# Altium footprint library Cesium_3.PcbLib: 30 footprints (part 1 of 2)
Each footprint in its own frame and in the unit in brackets; x right, y up, seen from the top. Pads: shape width x height; smd on the part's side, far side on the other; paste and mask are expansions set on the pad; w line width, h text height; cw(c..) or ccw(c..) is an arc to the next point about the centre after c.
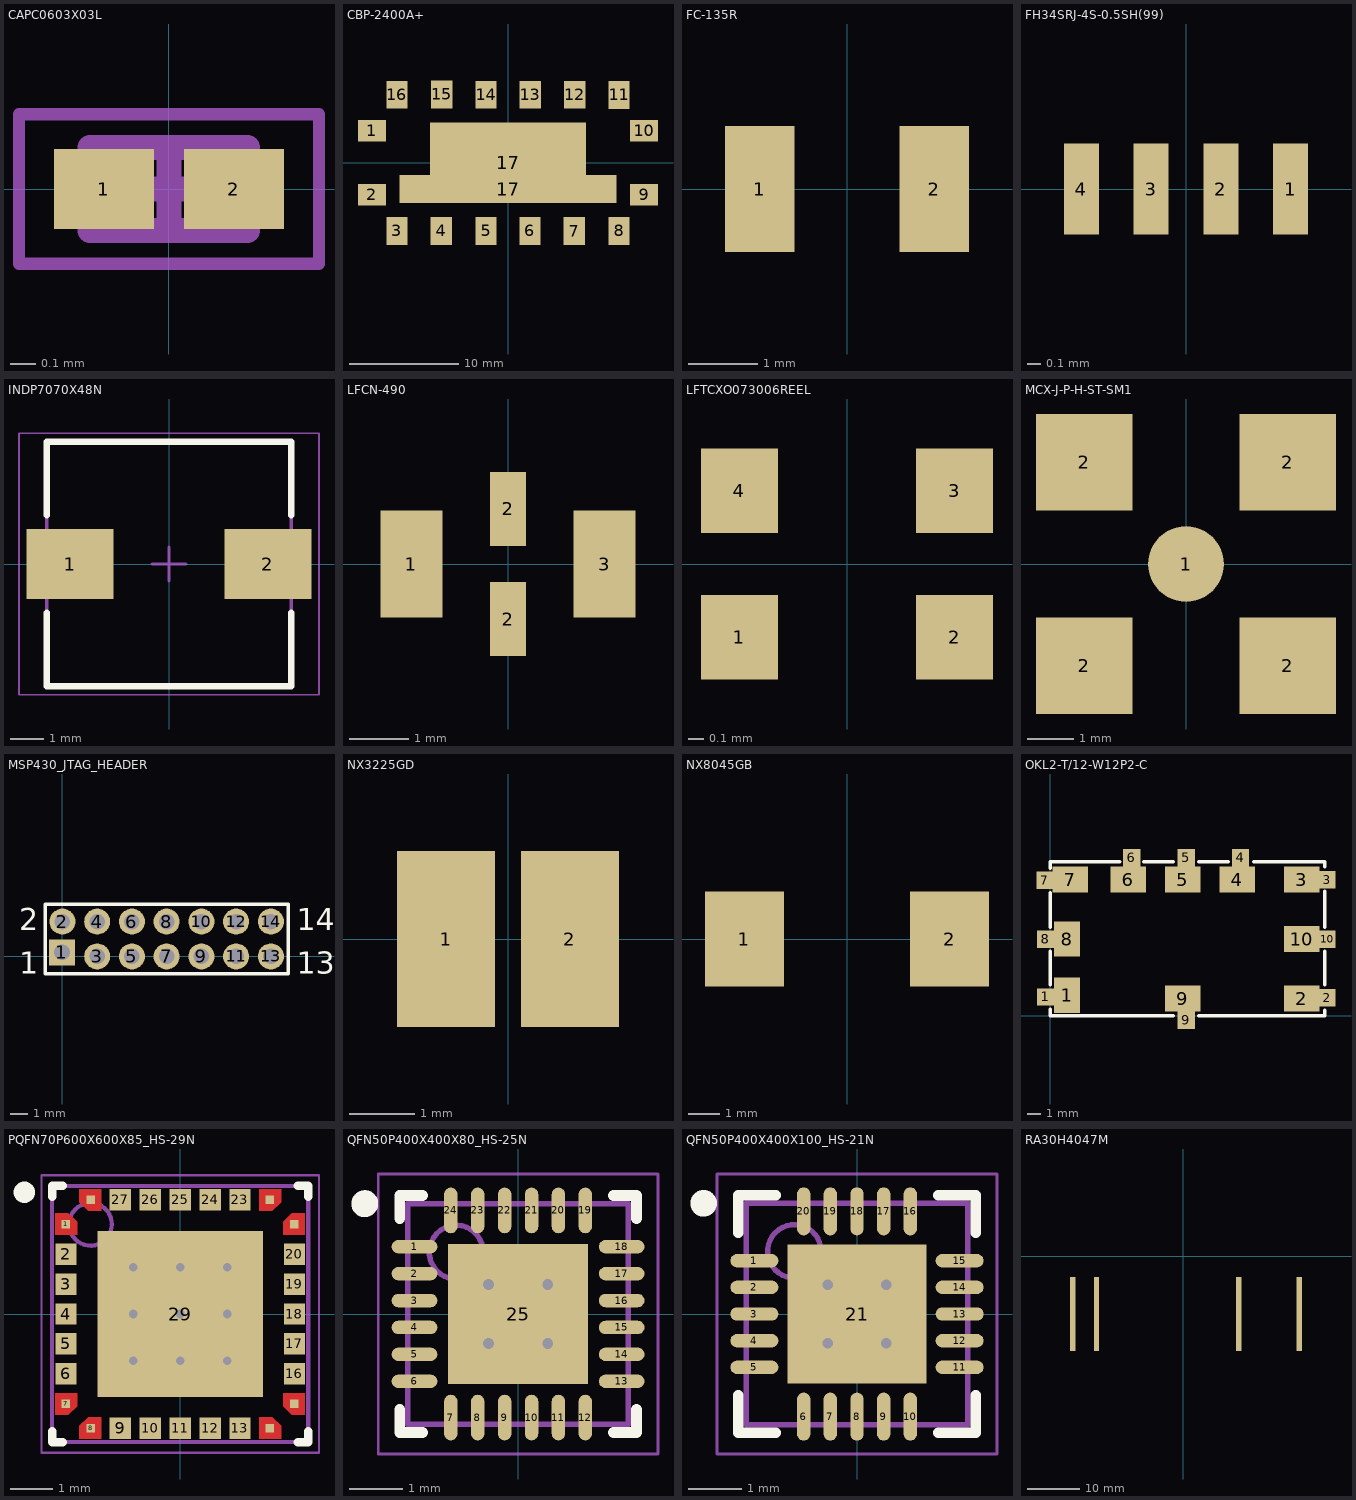
[diagram p0: the footprints below, top view; thin cyan lines are the x and y axes]

## CAPC0603X03L [mm] "Chip Capacitor, 2-Leads, Body 0.60x0.30mm, IPC High Density"
height 0.33
pads (2):
  rect 0.4x0.32 smd: 1(-0.26,0) 2(0.26,0)
Mechanical 13:
  lines w0.1: -0.315,-0.165 -0.315,0.165 0.315,0.165 0.315,-0.165 -0.315,-0.165
Mechanical 15:
  lines w0.05: -0.6,-0.3 -0.6,0.3 0.6,0.3 0.6,-0.3 -0.6,-0.3
  lines w0.1: -0.165,0 0.165,0 ; 0,-0.165 0,0.165
3D body: height 0.33, standoff 0, extent -0.165,-0.165 0.165,0.165
3D body: height 0.33, standoff 0, extent -0.315,-0.165 -0.165,0.165
3D body: height 0.33, standoff 0, extent 0.165,-0.165 0.315,0.165

## CBP-2400A+ [mm]
pads (18):
  rect 2.54x1.95 smd: 1(-12.445,2.92) 2(-12.445,-2.92) 9(12.445,-2.92) 10(12.445,2.92)
  rect 1.95x2.54 smd: 3(-10.155,-6.225) 4(-6.095,-6.225) 5(-2.01,-6.225) 6(2.01,-6.225) 7(6.07,-6.25) 8(10.155,-6.225) 11(10.155,6.2) 12(6.095,6.225) 13(2.035,6.225) 14(-2.01,6.225) 15(-6.07,6.25) 16(-10.155,6.225)
  rect 19.81x2.54 smd: 17(0,-2.41)
  rect 14.25x7.36 smd: 17(0,0)
3D body: height 1.27, standoff 0, extent -12.15,7.125 -12.15,7.125
3D body: height 4.7, standoff 0, extent -13,-6.975 13,6.975

## FC-135R [mm]
pads (2):
  rect 1x1.8 smd: 1(-1.25,0) 2(1.25,0)
3D body: height 0.9, standoff 0, extent -1.6,-0.75 1.6,0.75

## FH34SRJ-4S-0.5SH(99) [mm]
pads (4):
  rect 0.25x0.65 smd: 1(0.75,0) 2(0.25,0) 3(-0.25,0) 4(-0.75,0)
3D body "FH34SRJ-4S-0.5SH.stp": height 1, standoff 0, extent -2,-3 2,0.8

## INDP7070X48N [mm] "Precision Wire Wound Inductor, 2-Leads, Body 7.00x7.00mm, IPC Medium Density"
height 4.8
pads (2):
  rect 2.6x2.1 smd: 1(-2.95,0) 2(2.95,0)
Top Overlay:
  lines w0.2: -3.65,-1.45 -3.65,-3.65 3.65,-3.65 3.65,-1.45 ; -3.65,1.45 -3.65,3.65 3.65,3.65 3.65,1.45
Mechanical 13:
  lines w0.1: -3.65,-3.65 -3.65,3.65 3.65,3.65 3.65,-3.65 -3.65,-3.65
Mechanical 15:
  lines w0.05: -4.475,-3.9 -4.475,3.9 4.475,3.9 4.475,-3.9 -4.475,-3.9
  lines w0.1: -0.5,0 0.5,0 ; 0,-0.5 0,0.5
3D body: height 4.8, standoff 0, extent -3.65,-3.65 3.65,3.65

## LFCN-490 [mm]
pads (4):
  rect 1.04x1.8 smd: 1(-1.625,0) 3(1.625,0)
  rect 0.61x1.245 smd: 2(0,-0.927) 2(0,0.927)
3D body: height 0.94, standoff 0, extent -1.6,-0.8 1.8,0.8

## LFTCXO073006REEL [mm]
pads (4):
  rect 0.5x0.55 smd: 1(-0.7,-0.475) 2(0.7,-0.475) 3(0.7,0.475) 4(-0.7,0.475)
3D body: height 0.45, standoff 0, extent -0.825,-0.625 0.825,0.625

## MCX-J-P-H-ST-SM1 [mm]
pads (5):
  round 1.65 smd: 1(0,0)
  rect 2.1x2.1 smd: 2(-2.22,-2.22) 2(-2.22,2.22) 2(2.22,-2.22) 2(2.22,2.22)
3D body: height 1.27, standoff 0, extent 1.4,-0.6 1.4,-0.6
3D body "MCX-J-P-H-ST-SM1.stp": height 6, standoff 0, extent -2.94,-2.94 2.94,2.94

## MSP430_JTAG_HEADER [mm] "Connector; Header; 7x2 Position"
pads (14):
  rect 1.5x1.5 hole 0.9: 1(-0.025,0.229)
  round 1.5 hole 0.9: 2(0,2) 3(2,0) 4(2,2) 5(4,0) 6(4,2) 7(6,0) 8(6,2) 9(8,0) 10(8,2) 11(10,0) 12(10,2) 13(12,0) 14(12,2)
Top Overlay:
  lines w0.2: -1,-1 -1,3 13,3 13,-1 -1,-1
  text "2" at -2.5,1.5 h1.27
  text "1" at -2.5,-1 h1.27
  text "14" at 13.5,1.5 h1.27
  text "13" at 13.5,-1 h1.27
3D body "878331420.stp": height 6.35, standoff -2.11, extent -2.305,-0.217 14.345,8.433

## NX3225GD [mm]
pads (2):
  rect 1.5x2.7 smd: 1(-0.95,0) 2(0.95,0)
3D body: height 1, standoff 0, extent -1.6,-1.25 1.6,1.25

## NX8045GB [mm]
pads (2):
  rect 2.5x3 smd: 1(-3.25,0) 2(3.25,0)
3D body: height 1.27, standoff 0, extent -4,-2.25 4,2.275

## OKL2-T/12-W12P2-C [mm]
pads (20):
  rect 1.305x1.3 smd: 1(-0.327,1.395) 8(-0.327,5.72)
  rect 1.93x2.64 smd: 1(1.27,1.52) 8(1.27,5.72)
  rect 2.64x1.93 smd: 2(18.8,1.27) 3(18.8,10.16) 4(13.97,10.16) 5(9.91,10.16) 6(5.84,10.16) 7(1.52,10.16) 9(9.91,1.27) 10(18.8,5.72)
  rect 1.2x1.3 smd: 2(20.7,1.349) 3(20.7,10.16) 7(-0.4,10.109) 10(20.7,5.72)
  rect 1.3x1.305 smd: 4(14.22,11.777) 5(10.16,11.777) 6(6.09,11.777) 9(10.16,-0.327)
Top Overlay:
  lines w0.254: 0,0.5 0,0 9.2,0 ; 0,2.3 0,4.8 ; 0,6.6 0,9.2 ; 0,11 0,11.5 5.2,11.5 ; 7,11.5 9.2,11.5 ; 11.1,0 20.3,0 20.5,0 20.5,0.4 ; 11.1,11.5 13.3,11.5 ; 15.2,11.5 20.5,11.5 20.5,11.1 ; 20.5,2.3 20.5,4.8 ; 20.5,6.6 20.5,9.3
3D body: height 8.5, standoff 0, extent 0,0 20.5,11.5

## PQFN70P600X600X85_HS-29N [mm] "PQFN, 28-Leads, Body 6.00x6.00mm, Pitch 0.70mm, Thermal Pad 3.88x3.88mm, IPC Medium Density"
height 0.85
pads (29):
  rect 0.2x0.2 smd: 1(-2.675,2.1) 7(-2.675,-2.1) 8(-2.1,-2.675) 14(2.1,-2.675) 15(2.675,-2.1) 21(2.675,2.1) 22(2.1,2.675) 28(-2.1,2.675)
  rect 0.5x0.5 smd: 2(-2.675,1.4) 3(-2.675,0.7) 4(-2.675,0) 5(-2.675,-0.7) 6(-2.675,-1.4) 9(-1.4,-2.675) 10(-0.7,-2.675) 11(0,-2.675) 12(0.7,-2.675) 13(1.4,-2.675) 16(2.675,-1.4) 17(2.675,-0.7) 18(2.675,0) 19(2.675,0.7) 20(2.675,1.4) 23(1.4,2.675) 24(0.7,2.675) 25(0,2.675) 26(-0.7,2.675) 27(-1.4,2.675)
  rect 3.88x3.88 smd: 29(0,0)
via -1.1,1.1 diameter 0.5 hole 0.2
via 0,1.1 diameter 0.5 hole 0.2
via 1.1,1.1 diameter 0.5 hole 0.2
via -1.1,0 diameter 0.5 hole 0.2
via 0,0 diameter 0.5 hole 0.2
via 1.1,0 diameter 0.5 hole 0.2
via -1.1,-1.1 diameter 0.5 hole 0.2
via 0,-1.1 diameter 0.5 hole 0.2
via 1.1,-1.1 diameter 0.5 hole 0.2
Top Layer:
  region: -1.854,-2.413 -2.159,-2.413 -2.362,-2.616 -2.362,-2.921 -1.854,-2.921
  region: -2.921,-2.362 -2.616,-2.362 -2.413,-2.159 -2.413,-1.854 -2.921,-1.854
  region: 1.854,-2.413 2.159,-2.413 2.362,-2.616 2.362,-2.921 1.854,-2.921
  region: 2.921,-2.362 2.616,-2.362 2.413,-2.159 2.413,-1.854 2.921,-1.854
  region: 1.854,2.413 2.159,2.413 2.362,2.616 2.362,2.921 1.854,2.921
  region: 2.921,2.362 2.616,2.362 2.413,2.159 2.413,1.854 2.921,1.854
  region: -2.921,2.362 -2.616,2.362 -2.413,2.159 -2.413,1.854 -2.921,1.854
  region: -1.854,2.413 -2.159,2.413 -2.362,2.616 -2.362,2.921 -1.854,2.921
  region: -2.675,2.1
Top Overlay:
  circle w0.25: c-3.65,2.85 r0.125
  lines w0.2: -3,-2.75 -3,-3 -2.75,-3 ; -3,2.75 -3,3 -2.75,3 ; 2.75,-3 3,-3 3,-2.75 ; 2.75,3 3,3 3,2.75
Mechanical 13:
  circle w0.1: c-2.1,2.1 r0.5
  lines w0.1: -3,-3 -3,3 3,3 3,-3 -3,-3
Mechanical 15:
  lines w0.05: -3.25,-3.25 -3.25,3.25 3.25,3.25 3.25,-3.25 -3.25,-3.25
  lines w0.1: -0.5,0 0.5,0 ; 0,-0.5 0,0.5
3D body: height 0.85, standoff 0.05, extent -3,-3 3,3

## QFN50P400X400X80_HS-25N [mm] "QFN, 24-Leads, Body 4.00x4.00mm, Pitch 0.50mm, Thermal Pad 2.60x2.60mm, IPC Medium Density"
height 0.8
pads (25):
  oval 0.85x0.25 smd: 1(-1.925,1.25) 2(-1.925,0.75) 3(-1.925,0.25) 4(-1.925,-0.25) 5(-1.925,-0.75) 6(-1.925,-1.25) 13(1.925,-1.25) 14(1.925,-0.75) 15(1.925,-0.25) 16(1.925,0.25) 17(1.925,0.75) 18(1.925,1.25)
  oval 0.25x0.85 smd: 7(-1.25,-1.925) 8(-0.75,-1.925) 9(-0.25,-1.925) 10(0.25,-1.925) 11(0.75,-1.925) 12(1.25,-1.925) 19(1.25,1.925) 20(0.75,1.925) 21(0.25,1.925) 22(-0.25,1.925) 23(-0.75,1.925) 24(-1.25,1.925)
  rect 2.6x2.6 smd: 25(0,0)
via -0.55,0.55 diameter 0.5 hole 0.2
via 0.55,0.55 diameter 0.5 hole 0.2
via -0.55,-0.55 diameter 0.5 hole 0.2
via 0.55,-0.55 diameter 0.5 hole 0.2
Top Overlay:
  circle w0.25: c-2.85,2.05 r0.125
  lines w0.2: -2.2,-1.775 -2.2,-2.2 -1.775,-2.2 ; -2.2,1.775 -2.2,2.2 -1.775,2.2 ; 1.775,-2.2 2.2,-2.2 2.2,-1.775 ; 1.775,2.2 2.2,2.2 2.2,1.775
Mechanical 13:
  circle w0.1: c-1.15,1.15 r0.5
  lines w0.1: -2.05,-2.05 -2.05,2.05 2.05,2.05 2.05,-2.05 -2.05,-2.05
Mechanical 15:
  lines w0.05: -2.6,-2.6 -2.6,2.6 2.6,2.6 2.6,-2.6 -2.6,-2.6
  lines w0.1: -0.5,0 0.5,0 ; 0,-0.5 0,0.5
3D body: height 0.8, standoff 0.05, extent -2.05,-2.05 2.05,2.05

## QFN50P400X400X100_HS-21N [mm] "QFN, 20-Leads, Body 4.00x4.00mm, Pitch 0.50mm, Thermal Pad 2.60x2.60mm, IPC Medium Density"
height 1
pads (21):
  oval 0.9x0.25 smd: 1(-1.925,1) 2(-1.925,0.5) 3(-1.925,0) 4(-1.925,-0.5) 5(-1.925,-1) 11(1.925,-1) 12(1.925,-0.5) 13(1.925,0) 14(1.925,0.5) 15(1.925,1)
  oval 0.25x0.9 smd: 6(-1,-1.925) 7(-0.5,-1.925) 8(0,-1.925) 9(0.5,-1.925) 10(1,-1.925) 16(1,1.925) 17(0.5,1.925) 18(0,1.925) 19(-0.5,1.925) 20(-1,1.925)
  rect 2.6x2.6 smd: 21(0,0)
via -0.55,0.55 diameter 0.5 hole 0.2
via 0.55,0.55 diameter 0.5 hole 0.2
via -0.55,-0.55 diameter 0.5 hole 0.2
via 0.55,-0.55 diameter 0.5 hole 0.2
Top Overlay:
  circle w0.25: c-2.875,2.075 r0.125
  lines w0.2: -2.225,-1.525 -2.225,-2.225 -1.525,-2.225 ; -2.225,1.525 -2.225,2.225 -1.525,2.225 ; 1.525,-2.225 2.225,-2.225 2.225,-1.525 ; 1.525,2.225 2.225,2.225 2.225,1.525
Mechanical 13:
  circle w0.1: c-1.175,1.175 r0.5
  lines w0.1: -2.075,-2.075 -2.075,2.075 2.075,2.075 2.075,-2.075 -2.075,-2.075
Mechanical 15:
  lines w0.05: -2.625,-2.625 -2.625,2.625 2.625,2.625 2.625,-2.625 -2.625,-2.625
  lines w0.1: -0.5,0 0.5,0 ; 0,-0.5 0,0.5
3D body: height 1, standoff 0.05, extent -2.075,-2.075 2.075,2.075

## RA30H4047M [mm]
pads (4):
  rect 1x14 smd: 1(-21,-11) 2(-16.5,-11) 3(10.5,-11) 4(22,-11)
3D body "RA30H4047M.step": height 7.08, standoff -2.8, extent -33,-17.5 33,17.5